# Altium footprint library XDCR_AI-1027-TWT-3V-R.PcbLib: 1 footprints
Each footprint in its own frame and in the unit in brackets; x right, y up, seen from the top. Pads: shape width x height; smd on the part's side, far side on the other; paste and mask are expansions set on the pad; w line width, h text height; cw(c..) or ccw(c..) is an arc to the next point about the centre after c.
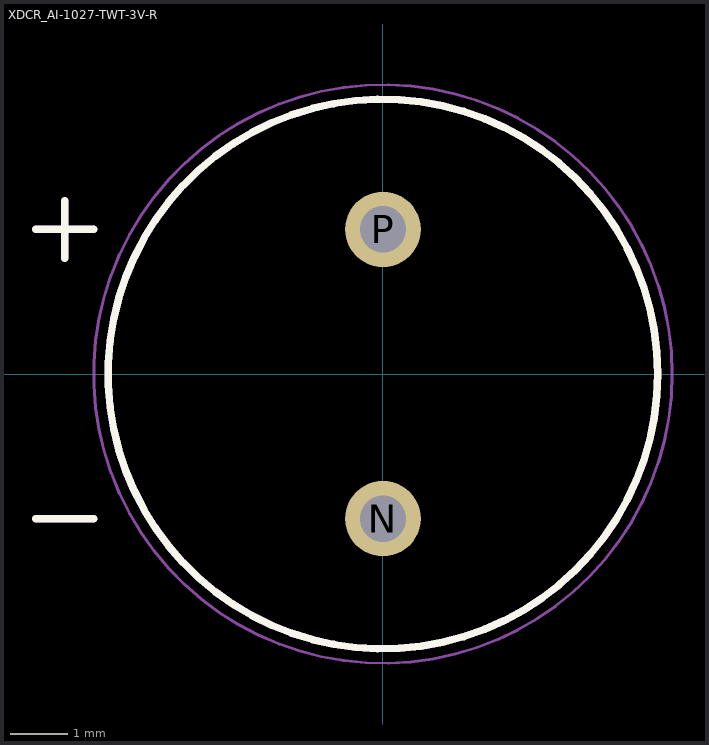
[diagram p0: the footprint, top view; thin cyan lines are the x and y axes]

## XDCR_AI-1027-TWT-3V-R [mm]
height 5
pads (2):
  round 1.308 hole 0.8: N(0,-2.5) P(0,2.5)
Top Overlay:
  circle w0.127: c0,0 r4.75
  lines w0.127: -6,-2.5 -5,-2.5 ; -6,2.5 -5,2.5 ; -5.5,2 -5.5,3
Mechanical 13:
  circle w0.127: c0,0 r4.75
  lines w0.127: -6,-2.5 -5,-2.5 ; -6,2.5 -5,2.5 ; -5.5,2 -5.5,3
Mechanical 15:
  circle w0.05: c0,0 r5
3D body "step_temp.STEP": height 2.42, standoff -7.13, extent -5.943,-4.747 4.759,4.747